# Altium schematic symbol library Powersupply.SchLib: 3 symbols
Pins are listed as number, name and electrical type; pins without a type are passive.

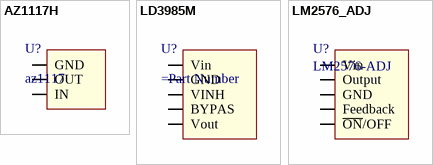
[diagram p0: symbols AZ1117H to LM2576_ADJ]

## AZ1117H
designator U?, comment az1117
Линейный стабилизатор
pins: 1 GND, 2 OUT, 3 IN

## LD3985M
designator U?
Линейный стабилизатор.
pins: 1 Vin, 2 GND, 3 VINH, 4 BYPAS, 5 Vout

## LM2576_ADJ
designator U?, comment LM2576-ADJ
Импульсный понижающий регулятор напряжения с регулировкой выхода 1.23В…37В, 3А
footprint LM2576_TO_263 (Footprint not found)
pins: 1 Vin, 2 Output, 3 GND, 4 Feedback, 5 ~{ON}/OFF